# Altium footprint library USB-mini.PcbLib: 1 footprints
Each footprint in its own frame and in the unit in brackets; x right, y up, seen from the top. Pads: shape width x height; smd on the part's side, far side on the other; paste and mask are expansions set on the pad; w line width, h text height; cw(c..) or ccw(c..) is an arc to the next point about the centre after c.
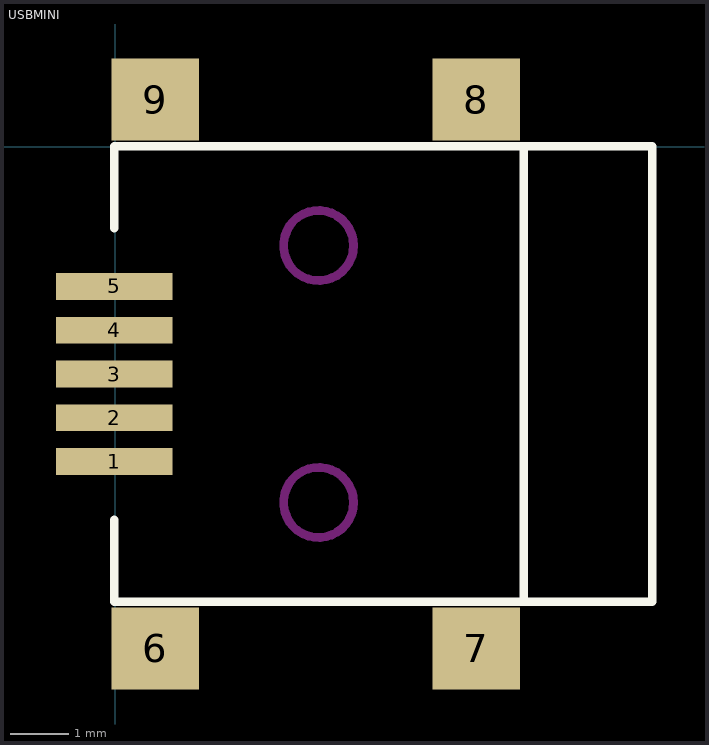
[diagram p0: the footprint, top view; thin cyan lines are the x and y axes]

## USBMINI [mm]
pads (9):
  rect 2x0.457 smd: 1(-0.014,-5.389) 2(-0.014,-4.639) 3(-0.014,-3.889) 4(-0.014,-3.139) 5(-0.014,-2.389)
  rect 1.5x1.4 smd: 6(0.686,-8.589) 7(6.186,-8.589) 8(6.186,0.811) 9(0.686,0.811)
Top Overlay:
  lines w0.15: -0.014,-6.389 -0.014,-7.789 6.586,-7.789 9.2,-7.789 9.2,0.011 6.586,0.011 -0.014,0.011 -0.014,-1.389 ; 7,-7.789 7,0.011
Keep-Out Layer:
  circle w0.15: c3.486,-6.089 r0.6
  circle w0.15: c3.486,-1.689 r0.6